# Altium integrated library Feed Through Capacitors.IntLib: 3 symbols
Pins are listed as number, name and electrical type; pins without a type are passive.

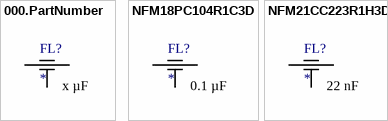
[diagram p0: symbols 000.PartNumber to NFM21CC223R1H3D]

## 000.PartNumber
designator FL?  Capacitance: x µF
Digikey Description; Manufacturer: *; Series: *; Package: *; Tolerance: *; Voltage - Rated: *; DC Resistance (DCR) (Max): *; Operating Temperature: *; Insertion Loss: *; Temperature Coefficient: *; Ratings: *; Mounting Type: *; Package / Case: *; Size / Dimension: *; Height (Max): *; Thread Size: *; Current: *; Base Product Number: *; Ozdisan Link: *; Digikey Link: *; Farnell TR Link: *; Mouser Link: *
pins: 1, 2, 3

## NFM18PC104R1C3D
designator FL?  Capacitance: 0.1 µF
CAP FEEDTHRU 0.1UF 20% 16V 0603; Manufacturer: Murata Electronics; DC Resistance (DCR) (Max): 30mOhm; Current: 2 A; Base Product Number: NFM18PC; Series: EMIFIL®, NFM18; Package: Tape & Reel (TR); Tolerance: ±20%; Voltage - Rated: 16 V; Operating Temperature: -55°C ~ 125°C; Insertion Loss: -; Temperature Coefficient: -; Ratings: -; Mounting Type: Surface Mount; Package / Case: 0603 (1608 Metric), 3 PC Pad; Size / Dimension: 0.063"" L x 0.032"" W (1.60mm x 0.80mm); Height (Max): 0.028"" (0.70mm); Ozdisan Link: https://ozdisan.com/pasif-komponentler/filtreler/emi-filtreler/NFM18PC104R1C3D; Digikey Link: https://www.digikey.com/en/products/detail/murata-electronics/NFM18PC104R1C3D/2595167; Farnell TR Link: https://tr.farnell.com/murata/nfm18pc104r1c3d/filter-suppression-0603-0-1uf/dp/1686508?st=nfm18pc104r1c3d; Mouser Link: https://www.mouser.com.tr/ProductDetail/Murata-Electronics/NFM18PC104R1C3D?qs=%2Fha2pyFaduhnf5CSd44WkjKvGcIezdh9QV9hab29aXBUHDg7Qdyl5Q%3D%3D
footprint MURATA_NFM18PC
pins: 1, 2, 3

## NFM21CC223R1H3D
designator FL?  Capacitance: 22 nF
CAP FEEDTHRU 0.022UF 50V 0805; Manufacturer: Murata Electronics; Tolerance: ±20%; Current: 2 A; Base Product Number: NFM21CC; Series: EMIFIL®, NFM21; Package: Tape & Reel (TR); Voltage - Rated: 50 V; DC Resistance (DCR) (Max): -; Operating Temperature: -55°C ~ 125°C; Insertion Loss: -; Temperature Coefficient: -; Ratings: -; Mounting Type: Surface Mount; Package / Case: 0805 (2012 Metric), 3 PC Pad; Size / Dimension: 0.079"" L x 0.049"" W (2.00mm x 1.25mm); Height (Max): 0.037"" (0.95mm); Thread Size: -; Ozdisan Link: https://ozdisan.com/Product/Detail/503499/NFM21CC223R1H3D; Digikey Link: https://www.digikey.com/en/products/detail/murata-electronics/NFM21CC223R1H3D/2595176?s=N4IgTCBcDaIHIDECyYCMBhdYwGYBKqAEjgCIgC6AvkA; Farnell TR Link: https://tr.farnell.com/murata/nfm21cc223r1h3d/filter-suppression-0805-22nf-50v/dp/1828797?st=nfm21cc223r1h3d; Mouser Link: https://www.mouser.com.tr/ProductDetail/Murata-Electronics/NFM21CC223R1H3D?qs=%2Fha2pyFadugJ7zZSnFLatjy%252BwCDRPJOaFvnMAhMx1YcGgNcZY983kA%3D%3D
footprint MURATA_NFM21CC
pins: 1, 2, 3